# Altium schematic symbol library Inductor_coupled.Schlib: 1 symbol
Pins are listed as number, name and electrical type; pins without a type are passive.

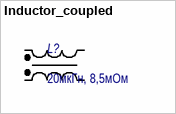
[diagram p0: symbol Inductor_coupled]

## Inductor_coupled
designator L?, comment 20мкГн, 8,5мОм
Coupled inductor; Назначение: Связанная индуктивность; Наименование: PLT10HH1026R0PN; Потребление, Вт: 0,1; Value: 20мкГн, 8,5мОм
footprint PLT10HH (Coupled Inductor)
footprint ACM2012
footprint B82790 (SMD common-mode chokes)
pins: 1, 2, 3, 4